# EAGLE library part OPA627AUE4 (library OPA627_FromFarnell)
OPERATIONAL AMPLIFIERS
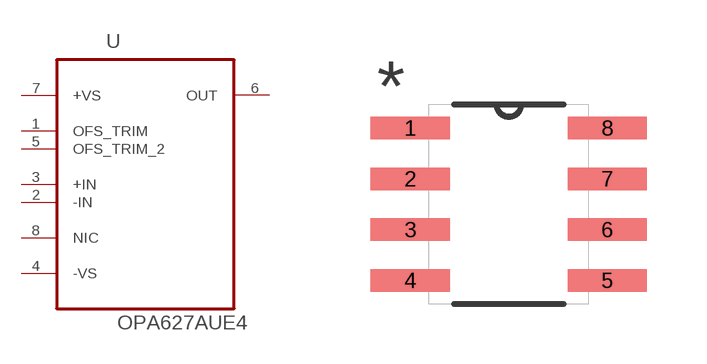
[diagram p0: symbol with the pads of SOIC127P600X175-8N; footprint SOIC127P600X175-8N]

Designator prefix U

## OPA627AUE4 (MPN: OPA627AUE4; OC_FARNELL: 1207067; OC_NEWARK: 97K6855; PACKAGE: SOIC-8; SUPPLIER: TI)  [SOIC127P600X175-8N]
1  OFS_TRIM  pas
2  -IN  in
3  +IN  in
4  -VS  pwr
5  OFS_TRIM_2  pas
6  OUT  out
7  +VS  pwr
8  NIC  nc

## Footprint SOIC127P600X175-8N (pad centres in mm)
smd 1.981 x 0.559: 1 -2.464,1.905; 2 -2.464,0.635; 3 -2.464,-0.635; 4 -2.464,-1.905; 5 2.464,-1.905; 6 2.464,-0.635; 7 2.464,0.635; 8 2.464,1.905